# Altium footprint library Con 050 DSubminiature.PcbLib: 112 footprints (part 2 of 7)
Each footprint in its own frame and in the unit in brackets; x right, y up, seen from the top. Pads: shape width x height; smd on the part's side, far side on the other; paste and mask are expansions set on the pad; w line width, h text height; cw(c..) or ccw(c..) is an arc to the next point about the centre after c.
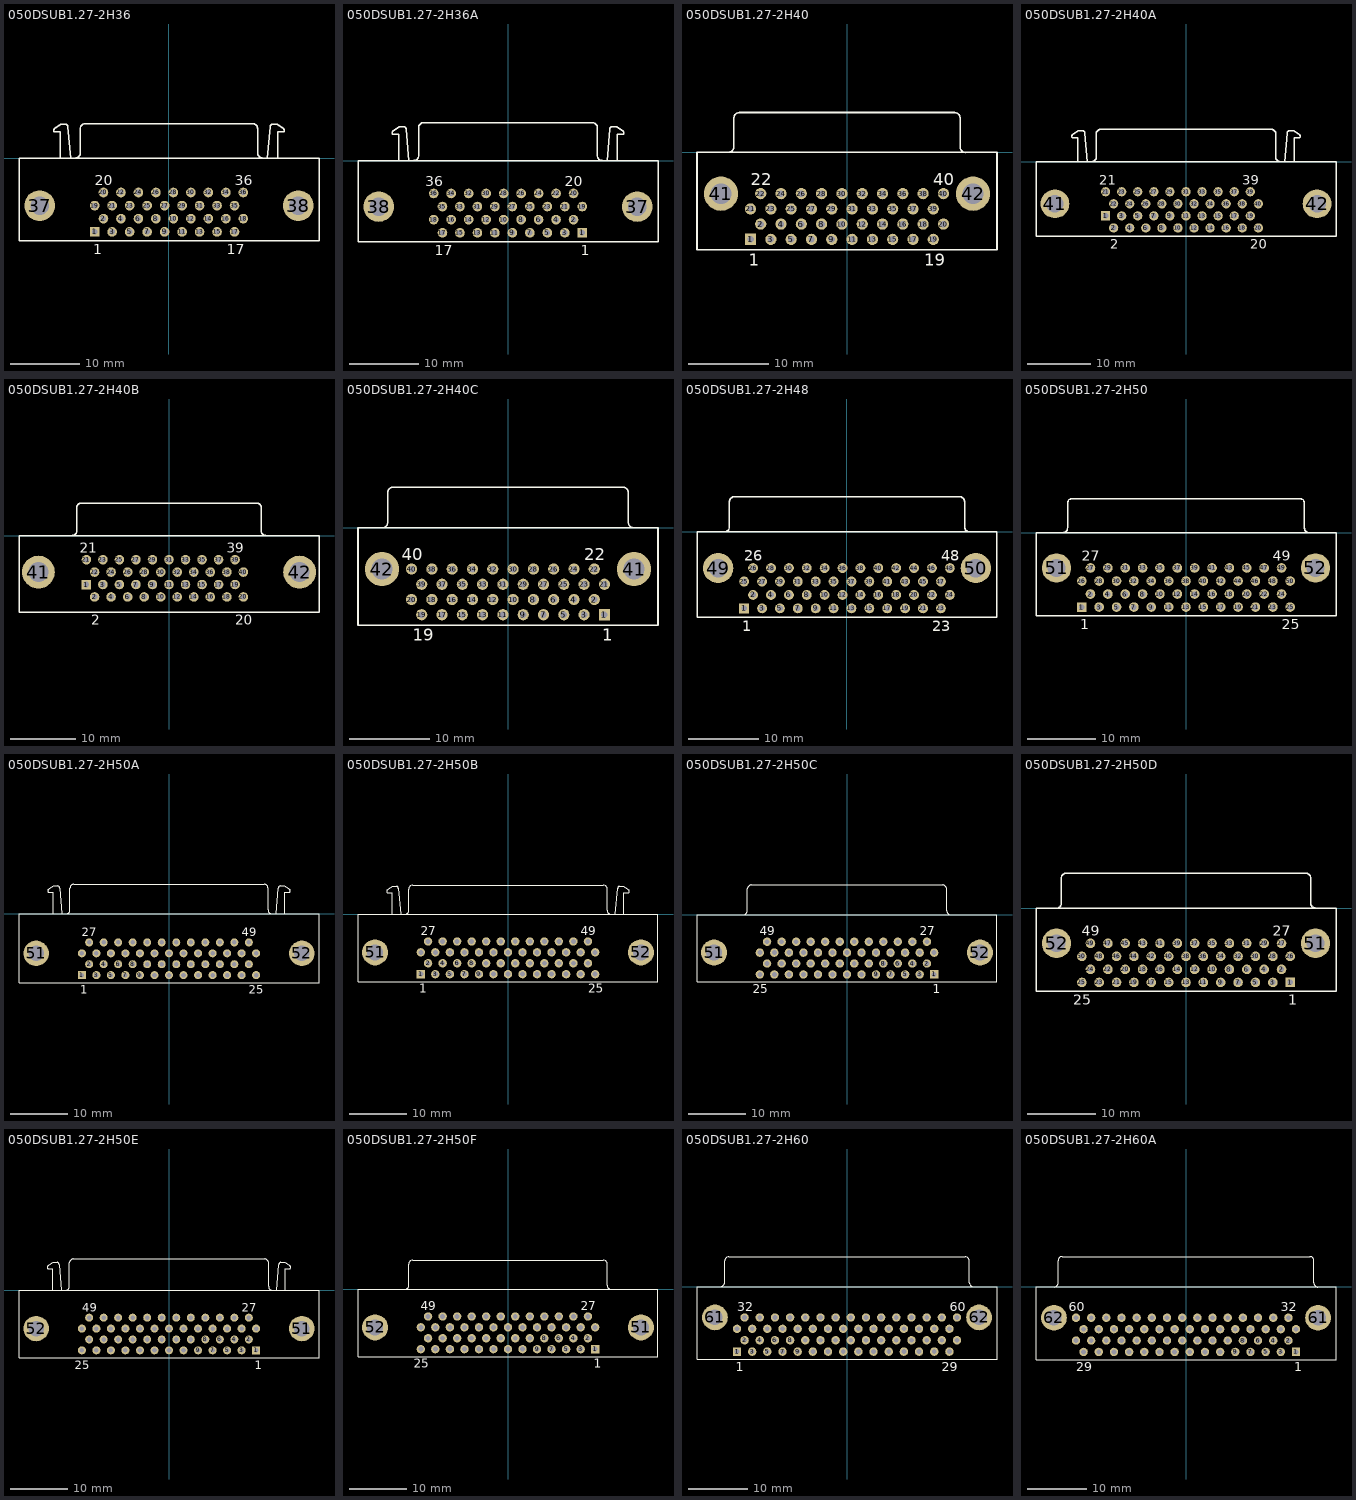
[diagram p1: the footprints below, top view; thin cyan lines are the x and y axes]

## 050DSUB1.27-2H36 [mm] "Connector; D Subminiature 050 Series; 36 Position; Right Angle"
height 10.55
pads (38):
  rect 1.4x1.4 hole 0.8: 1(-10.795,-10.715)
  round 1.4 hole 0.8: 2(-9.525,-8.81) 3(-8.255,-10.715) 4(-6.985,-8.81) 5(-5.715,-10.715) 6(-4.445,-8.81) 7(-3.175,-10.715) 8(-1.905,-8.81) 9(-0.635,-10.715) 10(0.635,-8.81) 11(1.905,-10.715) 12(3.175,-8.81) 13(4.445,-10.715) 14(5.715,-8.81) 15(6.985,-10.715) 16(8.255,-8.81) 17(9.525,-10.715) 18(10.795,-8.81) 19(-10.795,-6.905) 20(-9.525,-5) 21(-8.255,-6.905) 22(-6.985,-5) 23(-5.715,-6.905) 24(-4.445,-5) 25(-3.175,-6.905) 26(-1.905,-5) 27(-0.635,-6.905) 28(0.635,-5) 29(1.905,-6.905) 30(3.175,-5) 31(4.445,-6.905) 32(5.715,-5) 33(6.985,-6.905) 34(8.255,-5) 35(9.525,-6.905) 36(10.795,-5)
  round 4.45 hole 2.7: 37(-18.8,-6.905) 38(18.8,-6.905)
Top Overlay:
  lines w0.2: -16.655,4.28 -15.715,4.908 -14.993,4.908 cw(c-15.095,4.51) -14.685,4.51 ; -16.641,4.265 ccw(c-16.415,4.02) -16.665,3.8 -15.785,3.8 -15.785,0.01 ; -14.685,4.53 -14.315,0.01 ; -13.585,0.025 ccw(c-13.585,0.72) -12.89,0.72 ; -12.88,0.72 -12.88,4.31 cw(c-12.185,4.31) -12.185,5.005 ; -12.185,5 12.185,5 ; 12.175,5.005 cw(c12.175,4.31) 12.87,4.31 ; 12.88,4.31 12.88,0.72 ccw(c13.575,0.72) 13.575,0.025 ; 14.315,0.01 14.685,4.53 ; 14.685,4.51 cw(c15.095,4.51) 14.993,4.908 15.715,4.908 16.655,4.28 ; 15.785,0.01 15.785,3.8 16.665,3.8 ccw(c16.415,4.02) 16.641,4.265 ; -21.8,-12.015 21.8,-12.015 21.8,0 -21.8,0 -21.8,-12.015
  text "1" at -11.045,-13.99 h1.5
  text "17" at 8.4,-13.99 h1.5
  text "20" at -10.775,-3.925 h1.5
  text "36" at 9.545,-3.925 h1.5

## 050DSUB1.27-2H36A [mm] "Connector; D Subminiature 050 Series; 36 Position; Right Angle"
height 10.55
pads (38):
  rect 1.4x1.4 hole 0.8: 1(10.795,-10.5)
  round 1.4 hole 0.8: 2(9.525,-8.595) 3(8.255,-10.5) 4(6.985,-8.595) 5(5.715,-10.5) 6(4.445,-8.595) 7(3.175,-10.5) 8(1.905,-8.595) 9(0.635,-10.5) 10(-0.635,-8.595) 11(-1.905,-10.5) 12(-3.175,-8.595) 13(-4.445,-10.5) 14(-5.715,-8.595) 15(-6.985,-10.5) 16(-8.255,-8.595) 17(-9.525,-10.5) 18(-10.795,-8.595) 19(10.795,-6.69) 20(9.525,-4.785) 21(8.255,-6.69) 22(6.985,-4.785) 23(5.715,-6.69) 24(4.445,-4.785) 25(3.175,-6.69) 26(1.905,-4.785) 27(0.635,-6.69) 28(-0.635,-4.785) 29(-1.905,-6.69) 30(-3.175,-4.785) 31(-4.445,-6.69) 32(-5.715,-4.785) 33(-6.985,-6.69) 34(-8.255,-4.785) 35(-9.525,-6.69) 36(-10.795,-4.785)
  round 4.45 hole 2.7: 37(18.795,-6.69) 38(-18.795,-6.69)
Top Overlay:
  lines w0.2: -16.755,4.27 -15.815,4.898 -15.093,4.898 cw(c-15.195,4.5) -14.785,4.5 ; -16.741,4.255 ccw(c-16.515,4.01) -16.765,3.79 -15.885,3.79 -15.885,0 ; -14.785,4.52 -14.415,0 ; -13.675,0.015 ccw(c-13.675,0.71) -12.98,0.71 -12.98,4.805 cw(c-12.285,4.805) -12.285,5.5 ; -12.275,5.5 12.275,5.5 cw(c12.275,4.805) 12.97,4.805 ; 12.98,4.805 12.98,0.71 ccw(c13.675,0.71) 13.675,0.015 ; 14.405,0 14.775,4.52 ; 14.775,4.5 cw(c15.185,4.5) 15.083,4.898 15.805,4.898 16.745,4.27 ; 15.875,0 15.875,3.79 16.755,3.79 ccw(c16.505,4.01) 16.731,4.255 ; -21.8,-11.8 -21.8,0 21.8,0 21.8,-11.8 -21.8,-11.8
  text "36" at -12.045,-3.71 h1.5
  text "20" at 8.275,-3.71 h1.5
  text "17" at -10.65,-13.775 h1.5
  text "1" at 10.545,-13.775 h1.5

## 050DSUB1.27-2H40 [mm] "Connector; D Subminiature 050 Series; 40 Position; Right Angle"
height 8.1
pads (42):
  rect 1.4x1.4 hole 0.8: 1(-12.065,-10.87)
  round 1.4 hole 0.8: 2(-10.795,-8.965) 3(-9.525,-10.87) 4(-8.255,-8.965) 5(-6.985,-10.87) 6(-5.715,-8.965) 7(-4.445,-10.87) 8(-3.175,-8.965) 9(-1.905,-10.87) 10(-0.635,-8.965) 11(0.635,-10.87) 12(1.905,-8.965) 13(3.175,-10.87) 14(4.445,-8.965) 15(5.715,-10.87) 16(6.985,-8.965) 17(8.255,-10.87) 18(9.525,-8.965) 19(10.795,-10.87) 20(12.065,-8.965) 21(-12.065,-7.06) 22(-10.795,-5.155) 23(-9.525,-7.06) 24(-8.255,-5.155) 25(-6.985,-7.06) 26(-5.715,-5.155) 27(-4.445,-7.06) 28(-3.175,-5.155) 29(-1.905,-7.06) 30(-0.635,-5.155) 31(0.635,-7.06) 32(1.905,-5.155) 33(3.175,-7.06) 34(4.445,-5.155) 35(5.715,-7.06) 36(6.985,-5.155) 37(8.255,-7.06) 38(9.525,-5.155) 39(10.795,-7.06) 40(12.065,-5.155)
  round 4.3 hole 2.6: 41(-15.765,-5.155) 42(15.765,-5.155)
Top Overlay:
  lines w0.2: -14.845,0.02 ccw(c-14.845,0.715) -14.15,0.715 -14.15,4.305 cw(c-13.455,4.305) -13.455,5 ; -13.5,5 13.5,5 ; 13.455,5 cw(c13.455,4.305) 14.15,4.305 14.15,0.687 ccw(c14.845,0.687) 14.845,-0.008 ; -18.765,-12.17 -18.765,0 18.765,0 18.765,-12.17 -18.765,-12.17
  text "19" at 9.67,-14.145 h1.5
  text "1" at -12.315,-14.145 h1.5
  text "22" at -12.045,-4.08 h1.5
  text "40" at 10.815,-4.08 h1.5

## 050DSUB1.27-2H40A [mm] "Connector; D Subminiature 050 Series; 40 Position; Right Angle"
height 10.44
pads (42):
  rect 1.46x1.46 hole 0.86: 1(-12.7,-8.555)
  round 1.46 hole 0.86: 2(-11.43,-10.46) 3(-10.16,-8.555) 4(-8.89,-10.46) 5(-7.62,-8.555) 6(-6.35,-10.46) 7(-5.08,-8.555) 8(-3.81,-10.46) 9(-2.54,-8.555) 10(-1.27,-10.46) 11(0,-8.555) 12(1.27,-10.46) 13(2.54,-8.555) 14(3.81,-10.46) 15(5.08,-8.555) 16(6.35,-10.46) 17(7.62,-8.555) 18(8.89,-10.46) 19(10.16,-8.555) 20(11.43,-10.46) 21(-12.7,-4.745) 22(-11.43,-6.65) 23(-10.16,-4.745) 24(-8.89,-6.65) 25(-7.62,-4.745) 26(-6.35,-6.65) 27(-5.08,-4.745) 28(-3.81,-6.65) 29(-2.54,-4.745) 30(-1.27,-6.65) 31(0,-4.745) 32(1.27,-6.65) 33(2.54,-4.745) 34(3.81,-6.65) 35(5.08,-4.745) 36(6.35,-6.65) 37(7.62,-4.745) 38(8.89,-6.65) 39(10.16,-4.745) 40(11.43,-6.65)
  round 4.55 hole 2.77: 41(-20.7,-6.65) 42(20.7,-6.65)
Top Overlay:
  lines w0.2: -23.695,0 23.695,0 23.695,-11.76 -23.695,-11.76 -23.695,0.02 ; -17.95,4.27 -17.01,4.898 -16.288,4.898 cw(c-16.39,4.5) -15.98,4.5 ; -17.936,4.255 ccw(c-17.71,4.01) -17.96,3.79 -17.08,3.79 -17.08,0 ; -15.98,4.52 -15.61,0 ; -14.87,0.005 ccw(c-14.87,0.7) -14.175,0.7 -14.175,4.41 cw(c-13.48,4.41) -13.48,5.105 ; -13.48,5.11 13.48,5.11 ; 13.48,5.105 cw(c13.48,4.41) 14.175,4.41 14.175,0.7 ccw(c14.87,0.7) 14.87,0.005 ; 15.61,0 15.98,4.52 ; 15.98,4.5 cw(c16.39,4.5) 16.288,4.898 17.01,4.898 17.95,4.27 ; 17.08,0 17.08,3.79 17.96,3.79 ccw(c17.71,4.01) 17.936,4.255
  text "20" at 10.18,-13.735 h1.5
  text "39" at 8.91,-3.64 h1.5
  text "2" at -11.93,-13.735 h1.5
  text "21" at -13.7,-3.64 h1.5

## 050DSUB1.27-2H40B [mm] "Connector; D Subminiature 050 Series; 40 Position; Right Angle"
height 10.44
pads (42):
  rect 1.46x1.46 hole 0.86: 1(-12.7,-7.52)
  round 1.46 hole 0.86: 2(-11.43,-9.425) 3(-10.16,-7.52) 4(-8.89,-9.425) 5(-7.62,-7.52) 6(-6.35,-9.425) 7(-5.08,-7.52) 8(-3.81,-9.425) 9(-2.54,-7.52) 10(-1.27,-9.425) 11(0,-7.52) 12(1.27,-9.425) 13(2.54,-7.52) 14(3.81,-9.425) 15(5.08,-7.52) 16(6.35,-9.425) 17(7.62,-7.52) 18(8.89,-9.425) 19(10.16,-7.52) 20(11.43,-9.425) 21(-12.7,-3.71) 22(-11.43,-5.615) 23(-10.16,-3.71) 24(-8.89,-5.615) 25(-7.62,-3.71) 26(-6.35,-5.615) 27(-5.08,-3.71) 28(-3.81,-5.615) 29(-2.54,-3.71) 30(-1.27,-5.615) 31(0,-3.71) 32(1.27,-5.615) 33(2.54,-3.71) 34(3.81,-5.615) 35(5.08,-3.71) 36(6.35,-5.615) 37(7.62,-3.71) 38(8.89,-5.615) 39(10.16,-3.71) 40(11.43,-5.615)
  round 5.05 hole 3.05: 41(-20.065,-5.615) 42(20.065,-5.615)
Top Overlay:
  lines w0.2: -14.87,0.005 ccw(c-14.87,0.7) -14.175,0.7 -14.175,4.3 cw(c-13.48,4.3) -13.48,4.995 ; -13.48,5 13.48,5 ; 13.48,4.995 cw(c13.48,4.3) 14.175,4.3 14.175,0.7 ccw(c14.87,0.7) 14.87,0.005 ; -23.05,-11.76 -23.05,0 23.05,0 23.05,-11.76 -23.05,-11.76
  text "2" at -11.93,-13.735 h1.5
  text "20" at 10.18,-13.735 h1.5
  text "21" at -13.7,-2.605 h1.5
  text "39" at 8.91,-2.605 h1.5

## 050DSUB1.27-2H40C [mm] "Connector; D Subminiature 050 Series; 40 Position; Right Angle"
height 8.1
pads (42):
  rect 1.4x1.4 hole 0.8: 1(12.065,-10.87)
  round 1.4 hole 0.8: 2(10.795,-8.965) 3(9.525,-10.87) 4(8.255,-8.965) 5(6.985,-10.87) 6(5.715,-8.965) 7(4.445,-10.87) 8(3.175,-8.965) 9(1.905,-10.87) 10(0.635,-8.965) 11(-0.635,-10.87) 12(-1.905,-8.965) 13(-3.175,-10.87) 14(-4.445,-8.965) 15(-5.715,-10.87) 16(-6.985,-8.965) 17(-8.255,-10.87) 18(-9.525,-8.965) 19(-10.795,-10.87) 20(-12.065,-8.965) 21(12.065,-7.06) 22(10.795,-5.155) 23(9.525,-7.06) 24(8.255,-5.155) 25(6.985,-7.06) 26(5.715,-5.155) 27(4.445,-7.06) 28(3.175,-5.155) 29(1.905,-7.06) 30(0.635,-5.155) 31(-0.635,-7.06) 32(-1.905,-5.155) 33(-3.175,-7.06) 34(-4.445,-5.155) 35(-5.715,-7.06) 36(-6.985,-5.155) 37(-8.255,-7.06) 38(-9.525,-5.155) 39(-10.795,-7.06) 40(-12.065,-5.155)
  round 4.3 hole 2.6: 41(15.765,-5.155) 42(-15.765,-5.155)
Top Overlay:
  lines w0.2: -15.745,-0.008 ccw(c-15.745,0.687) -15.05,0.687 -15.05,4.405 cw(c-14.355,4.405) -14.355,5.1 ; -14.3,5.1 14.3,5.1 ; 14.355,5.1 cw(c14.355,4.405) 15.05,4.405 15.05,0.715 ccw(c15.745,0.715) 15.745,0.02 ; -18.765,-12.17 -18.765,0 18.765,0 18.765,-12.17 -18.765,-12.17
  text "19" at -11.92,-14.145 h1.5
  text "1" at 11.815,-14.145 h1.5
  text "22" at 9.545,-4.08 h1.5
  text "40" at -13.315,-4.08 h1.5

## 050DSUB1.27-2H48 [mm] "Connector; D Subminiature 050 Series; 48 Position; Right Angle"
height 8.1
pads (50):
  rect 1.4x1.4 hole 0.8: 1(-14.605,-10.87)
  round 1.4 hole 0.8: 2(-13.335,-8.965) 3(-12.065,-10.87) 4(-10.795,-8.965) 5(-9.525,-10.87) 6(-8.255,-8.965) 7(-6.985,-10.87) 8(-5.715,-8.965) 9(-4.445,-10.87) 10(-3.175,-8.965) 11(-1.905,-10.87) 12(-0.635,-8.965) 13(0.635,-10.87) 14(1.905,-8.965) 15(3.175,-10.87) 16(4.445,-8.965) 17(5.715,-10.87) 18(6.985,-8.965) 19(8.255,-10.87) 20(9.525,-8.965) 21(10.795,-10.87) 22(12.065,-8.965) 23(13.335,-10.87) 24(14.605,-8.965) 25(-14.605,-7.06) 26(-13.335,-5.155) 27(-12.065,-7.06) 28(-10.795,-5.155) 29(-9.525,-7.06) 30(-8.255,-5.155) 31(-6.985,-7.06) 32(-5.715,-5.155) 33(-4.445,-7.06) 34(-3.175,-5.155) 35(-1.905,-7.06) 36(-0.635,-5.155) 37(0.635,-7.06) 38(1.905,-5.155) 39(3.175,-7.06) 40(4.445,-5.155) 41(5.715,-7.06) 42(6.985,-5.155) 43(8.255,-7.06) 44(9.525,-5.155) 45(10.795,-7.06) 46(12.065,-5.155) 47(13.335,-7.06) 48(14.605,-5.155)
  round 4.3 hole 2.6: 49(-18.305,-5.155) 50(18.305,-5.155)
Top Overlay:
  lines w0.2: -17.385,0.002 ccw(c-17.385,0.697) -16.69,0.697 -16.69,4.305 cw(c-15.995,4.305) -15.995,5 ; -16,5 16,5 ; 15.995,5 cw(c15.995,4.305) 16.69,4.305 16.69,0.717 ccw(c17.385,0.717) 17.385,0.022 ; -21.305,-12.17 21.305,-12.17 21.305,0 -21.305,0 -21.305,-12.17
  text "26" at -14.585,-4.08 h1.5
  text "48" at 13.355,-4.08 h1.5
  text "1" at -14.855,-14.145 h1.5
  text "23" at 12.085,-14.145 h1.5

## 050DSUB1.27-2H50 [mm] "Connector; D Subminiature 050 Series; 50 Position; Right Angle"
height 8.1
pads (52):
  rect 1.4x1.4 hole 0.8: 1(-15.24,-10.87)
  round 1.4 hole 0.8: 2(-13.97,-8.965) 3(-12.7,-10.87) 4(-11.43,-8.965) 5(-10.16,-10.87) 6(-8.89,-8.965) 7(-7.62,-10.87) 8(-6.35,-8.965) 9(-5.08,-10.87) 10(-3.81,-8.965) 11(-2.54,-10.87) 12(-1.27,-8.965) 13(0,-10.87) 14(1.27,-8.965) 15(2.54,-10.87) 16(3.81,-8.965) 17(5.08,-10.87) 18(6.35,-8.965) 19(7.62,-10.87) 20(8.89,-8.965) 21(10.16,-10.87) 22(11.43,-8.965) 23(12.7,-10.87) 24(13.97,-8.965) 25(15.24,-10.87) 26(-15.24,-7.06) 27(-13.97,-5.155) 28(-12.7,-7.06) 29(-11.43,-5.155) 30(-10.16,-7.06) 31(-8.89,-5.155) 32(-7.62,-7.06) 33(-6.35,-5.155) 34(-5.08,-7.06) 35(-3.81,-5.155) 36(-2.54,-7.06) 37(-1.27,-5.155) 38(0,-7.06) 39(1.27,-5.155) 40(2.54,-7.06) 41(3.81,-5.155) 42(5.08,-7.06) 43(6.35,-5.155) 44(7.62,-7.06) 45(8.89,-5.155) 46(10.16,-7.06) 47(11.43,-5.155) 48(12.7,-7.06) 49(13.97,-5.155) 50(15.24,-7.06)
  round 4.3 hole 2.6: 51(-18.94,-5.155) 52(18.94,-5.155)
Top Overlay:
  lines w0.2: -18.02,0.02 ccw(c-18.02,0.715) -17.325,0.715 -17.325,4.305 cw(c-16.63,4.305) -16.63,5 16.68,5 ; 16.63,5 cw(c16.63,4.305) 17.325,4.305 17.325,0.687 ccw(c18.02,0.687) 18.02,-0.008 ; -21.94,-12.17 21.94,-12.17 21.94,0 -21.94,0 -21.94,-12.17
  text "25" at 13.99,-14.145 h1.5
  text "1" at -15.49,-14.145 h1.5
  text "49" at 12.72,-4.08 h1.5
  text "27" at -15.22,-4.08 h1.5

## 050DSUB1.27-2H50A [mm] "Connector; D Subminiature 050 Series; 50 Position; Right Angle"
height 10.55
pads (52):
  rect 1.4x1.4 hole 0.8: 1(-15.24,-10.71)
  round 1.4 hole 0.8: 2(-13.97,-8.805) 3(-12.7,-10.71) 4(-11.43,-8.805) 5(-10.16,-10.71) 6(-8.89,-8.805) 7(-7.62,-10.71) 8(-6.35,-8.805) 9(-5.08,-10.71) 10(-3.81,-8.805) 11(-2.54,-10.71) 12(-1.27,-8.805) 13(0,-10.71) 14(1.27,-8.805) 15(2.54,-10.71) 16(3.81,-8.805) 17(5.08,-10.71) 18(6.35,-8.805) 19(7.62,-10.71) 20(8.89,-8.805) 21(10.16,-10.71) 22(11.43,-8.805) 23(12.7,-10.71) 24(13.97,-8.805) 25(15.24,-10.71) 26(-15.24,-6.9) 27(-13.97,-4.995) 28(-12.7,-6.9) 29(-11.43,-4.995) 30(-10.16,-6.9) 31(-8.89,-4.995) 32(-7.62,-6.9) 33(-6.35,-4.995) 34(-5.08,-6.9) 35(-3.81,-4.995) 36(-2.54,-6.9) 37(-1.27,-4.995) 38(0,-6.9) 39(1.27,-4.995) 40(2.54,-6.9) 41(3.81,-4.995) 42(5.08,-6.9) 43(6.35,-4.995) 44(7.62,-6.9) 45(8.89,-4.995) 46(10.16,-6.9) 47(11.43,-4.995) 48(12.7,-6.9) 49(13.97,-4.995) 50(15.24,-6.9)
  round 4.45 hole 2.7: 51(-23.24,-6.9) 52(23.24,-6.9)
Top Overlay:
  lines w0.2: -21.1,4.27 -20.16,4.898 -19.438,4.898 cw(c-19.54,4.5) -19.13,4.5 ; -21.086,4.255 ccw(c-20.86,4.01) -21.11,3.79 -20.23,3.79 -20.23,0 ; -19.13,4.52 -18.76,0 ; -18.02,0.005 ccw(c-18.02,0.7) -17.325,0.7 -17.325,4.5 ; -17.32,4.505 cw(c-16.625,4.505) -16.625,5.2 16.625,5.2 cw(c16.625,4.505) 17.32,4.505 ; 17.325,4.5 17.325,0.7 ccw(c18.02,0.7) 18.02,0.005 ; 18.76,0 19.13,4.52 ; 19.13,4.5 cw(c19.54,4.5) 19.438,4.898 20.16,4.898 21.1,4.27 ; 20.23,0 20.23,3.79 21.11,3.79 ccw(c20.86,4.01) 21.086,4.255 ; -26.24,-12.01 -26.24,0 26.24,0 26.24,-12.01 -26.24,-12.01
  text "1" at -15.49,-13.985 h1.5
  text "25" at 13.99,-13.985 h1.5
  text "27" at -15.22,-3.92 h1.5
  text "49" at 12.72,-3.92 h1.5

## 050DSUB1.27-2H50B [mm] "Connector; D Subminiature 050 Series; 50 Position; Right Angle"
height 10.44
pads (52):
  rect 1.46x1.46 hole 0.86: 1(-15.24,-10.46)
  round 1.46 hole 0.86: 2(-13.97,-8.555) 3(-12.7,-10.46) 4(-11.43,-8.555) 5(-10.16,-10.46) 6(-8.89,-8.555) 7(-7.62,-10.46) 8(-6.35,-8.555) 9(-5.08,-10.46) 10(-3.81,-8.555) 11(-2.54,-10.46) 12(-1.27,-8.555) 13(0,-10.46) 14(1.27,-8.555) 15(2.54,-10.46) 16(3.81,-8.555) 17(5.08,-10.46) 18(6.35,-8.555) 19(7.62,-10.46) 20(8.89,-8.555) 21(10.16,-10.46) 22(11.43,-8.555) 23(12.7,-10.46) 24(13.97,-8.555) 25(15.24,-10.46) 26(-15.24,-6.65) 27(-13.97,-4.745) 28(-12.7,-6.65) 29(-11.43,-4.745) 30(-10.16,-6.65) 31(-8.89,-4.745) 32(-7.62,-6.65) 33(-6.35,-4.745) 34(-5.08,-6.65) 35(-3.81,-4.745) 36(-2.54,-6.65) 37(-1.27,-4.745) 38(0,-6.65) 39(1.27,-4.745) 40(2.54,-6.65) 41(3.81,-4.745) 42(5.08,-6.65) 43(6.35,-4.745) 44(7.62,-6.65) 45(8.89,-4.745) 46(10.16,-6.65) 47(11.43,-4.745) 48(12.7,-6.65) 49(13.97,-4.745) 50(15.24,-6.65)
  round 4.55 hole 2.77: 51(-23.24,-6.65) 52(23.24,-6.65)
Top Overlay:
  lines w0.2: -21.125,4.27 -20.185,4.898 -19.463,4.898 cw(c-19.565,4.5) -19.155,4.5 ; -21.111,4.255 ccw(c-20.885,4.01) -21.135,3.79 -20.255,3.79 -20.255,0 ; -19.155,4.52 -18.785,0 ; -18.045,0.015 ccw(c-18.045,0.71) -17.35,0.71 -17.35,4.41 ; -17.345,4.415 cw(c-16.65,4.415) -16.65,5.11 16.65,5.11 cw(c16.65,4.415) 17.345,4.415 ; 17.35,4.41 17.35,0.71 ccw(c18.045,0.71) 18.045,0.015 ; 18.785,0 19.155,4.52 ; 19.155,4.5 cw(c19.565,4.5) 19.463,4.898 20.185,4.898 21.125,4.27 ; 20.255,0 20.255,3.79 21.135,3.79 ccw(c20.885,4.01) 21.111,4.255 ; -26.225,-11.76 -26.225,0 26.225,0 26.225,-11.76 -26.225,-11.76
  text "1" at -15.49,-13.735 h1.5
  text "25" at 13.99,-13.735 h1.5
  text "27" at -15.22,-3.64 h1.5
  text "49" at 12.72,-3.64 h1.5

## 050DSUB1.27-2H50C [mm] "Connector; D Subminiature 050 Series; 50 Position; Right Angle"
height 10.44
pads (52):
  rect 1.46x1.46 hole 0.86: 1(15.24,-10.46)
  round 1.46 hole 0.86: 2(13.97,-8.555) 3(12.7,-10.46) 4(11.43,-8.555) 5(10.16,-10.46) 6(8.89,-8.555) 7(7.62,-10.46) 8(6.35,-8.555) 9(5.08,-10.46) 10(3.81,-8.555) 11(2.54,-10.46) 12(1.27,-8.555) 13(0,-10.46) 14(-1.27,-8.555) 15(-2.54,-10.46) 16(-3.81,-8.555) 17(-5.08,-10.46) 18(-6.35,-8.555) 19(-7.62,-10.46) 20(-8.89,-8.555) 21(-10.16,-10.46) 22(-11.43,-8.555) 23(-12.7,-10.46) 24(-13.97,-8.555) 25(-15.24,-10.46) 26(15.24,-6.65) 27(13.97,-4.745) 28(12.7,-6.65) 29(11.43,-4.745) 30(10.16,-6.65) 31(8.89,-4.745) 32(7.62,-6.65) 33(6.35,-4.745) 34(5.08,-6.65) 35(3.81,-4.745) 36(2.54,-6.65) 37(1.27,-4.745) 38(0,-6.65) 39(-1.27,-4.745) 40(-2.54,-6.65) 41(-3.81,-4.745) 42(-5.08,-6.65) 43(-6.35,-4.745) 44(-7.62,-6.65) 45(-8.89,-4.745) 46(-10.16,-6.65) 47(-11.43,-4.745) 48(-12.7,-6.65) 49(-13.97,-4.745) 50(-15.24,-6.65)
  round 4.55 hole 2.77: 51(-23.24,-6.65) 52(23.24,-6.65)
Top Overlay:
  lines w0.2: -18.12,0 ccw(c-18.12,0.695) -17.425,0.695 -17.425,4.495 ; -17.42,4.5 cw(c-16.725,4.5) -16.725,5.195 16.725,5.195 cw(c16.725,4.5) 17.42,4.5 ; 17.425,4.495 17.425,0.695 ccw(c18.12,0.695) 18.12,0 ; -26.225,-11.76 26.225,-11.76 26.225,0 -26.225,0 -26.225,-11.76
  text "27" at 12.72,-3.64 h1.5
  text "49" at -15.22,-3.64 h1.5
  text "25" at -16.49,-13.735 h1.5
  text "1" at 14.99,-13.735 h1.5

## 050DSUB1.27-2H50D [mm] "Connector; D Subminiature 050 Series; 50 Position; Right Angle"
height 8.1
pads (52):
  rect 1.4x1.4 hole 0.8: 1(15.24,-10.87)
  round 1.4 hole 0.8: 2(13.97,-8.965) 3(12.7,-10.87) 4(11.43,-8.965) 5(10.16,-10.87) 6(8.89,-8.965) 7(7.62,-10.87) 8(6.35,-8.965) 9(5.08,-10.87) 10(3.81,-8.965) 11(2.54,-10.87) 12(1.27,-8.965) 13(0,-10.87) 14(-1.27,-8.965) 15(-2.54,-10.87) 16(-3.81,-8.965) 17(-5.08,-10.87) 18(-6.35,-8.965) 19(-7.62,-10.87) 20(-8.89,-8.965) 21(-10.16,-10.87) 22(-11.43,-8.965) 23(-12.7,-10.87) 24(-13.97,-8.965) 25(-15.24,-10.87) 26(15.24,-7.06) 27(13.97,-5.155) 28(12.7,-7.06) 29(11.43,-5.155) 30(10.16,-7.06) 31(8.89,-5.155) 32(7.62,-7.06) 33(6.35,-5.155) 34(5.08,-7.06) 35(3.81,-5.155) 36(2.54,-7.06) 37(1.27,-5.155) 38(0,-7.06) 39(-1.27,-5.155) 40(-2.54,-7.06) 41(-3.81,-5.155) 42(-5.08,-7.06) 43(-6.35,-5.155) 44(-7.62,-7.06) 45(-8.89,-5.155) 46(-10.16,-7.06) 47(-11.43,-5.155) 48(-12.7,-7.06) 49(-13.97,-5.155) 50(-15.24,-7.06)
  round 4.3 hole 2.6: 51(18.94,-5.155) 52(-18.94,-5.155)
Top Overlay:
  lines w0.2: -18.92,-0.008 ccw(c-18.92,0.687) -18.225,0.687 -18.225,4.42 ; -18.22,4.405 cw(c-17.525,4.405) -17.525,5.1 17.525,5.1 cw(c17.525,4.405) 18.22,4.405 ; 18.225,0.687 18.225,4.42 ; 18.225,0.715 ccw(c18.92,0.715) 18.92,0.02 ; -21.94,-12.17 -21.94,0 21.94,0 21.94,-12.17 -21.94,-12.17
  text "27" at 12.72,-4.08 h1.5
  text "49" at -15.22,-4.08 h1.5
  text "1" at 14.99,-14.145 h1.5
  text "25" at -16.49,-14.145 h1.5

## 050DSUB1.27-2H50E [mm] "Connector; D Subminiature 050 Series; 50 Position; Right Angle"
height 10.55
pads (52):
  rect 1.4x1.4 hole 0.8: 1(15.24,-10.5)
  round 1.4 hole 0.8: 2(13.97,-8.595) 3(12.7,-10.5) 4(11.43,-8.595) 5(10.16,-10.5) 6(8.89,-8.595) 7(7.62,-10.5) 8(6.35,-8.595) 9(5.08,-10.5) 10(3.81,-8.595) 11(2.54,-10.5) 12(1.27,-8.595) 13(0,-10.5) 14(-1.27,-8.595) 15(-2.54,-10.5) 16(-3.81,-8.595) 17(-5.08,-10.5) 18(-6.35,-8.595) 19(-7.62,-10.5) 20(-8.89,-8.595) 21(-10.16,-10.5) 22(-11.43,-8.595) 23(-12.7,-10.5) 24(-13.97,-8.595) 25(-15.24,-10.5) 26(15.24,-6.69) 27(13.97,-4.785) 28(12.7,-6.69) 29(11.43,-4.785) 30(10.16,-6.69) 31(8.89,-4.785) 32(7.62,-6.69) 33(6.35,-4.785) 34(5.08,-6.69) 35(3.81,-4.785) 36(2.54,-6.69) 37(1.27,-4.785) 38(0,-6.69) 39(-1.27,-4.785) 40(-2.54,-6.69) 41(-3.81,-4.785) 42(-5.08,-6.69) 43(-6.35,-4.785) 44(-7.62,-6.69) 45(-8.89,-4.785) 46(-10.16,-6.69) 47(-11.43,-4.785) 48(-12.7,-6.69) 49(-13.97,-4.785) 50(-15.24,-6.69)
  round 4.45 hole 2.7: 51(23.24,-6.69) 52(-23.24,-6.69)
Top Overlay:
  lines w0.2: -21.21,4.27 -20.27,4.898 -19.548,4.898 cw(c-19.65,4.5) -19.24,4.5 ; -21.196,4.255 ccw(c-20.97,4.01) -21.22,3.79 -20.34,3.79 -20.34,0 ; -19.24,4.52 -18.87,0 ; -18.13,0.005 ccw(c-18.13,0.7) -17.435,0.7 -17.435,4.805 ; -17.425,4.805 cw(c-16.73,4.805) -16.73,5.5 16.73,5.5 cw(c16.73,4.805) 17.425,4.805 ; 17.415,4.805 17.415,0.7 ccw(c18.11,0.7) 18.11,0.005 ; 18.85,0 19.22,4.52 ; 19.22,4.5 cw(c19.63,4.5) 19.528,4.898 20.25,4.898 21.19,4.27 ; 20.32,0 20.32,3.79 21.2,3.79 ccw(c20.95,4.01) 21.176,4.255 ; -26.25,-11.8 -26.25,0 26.25,0 26.25,-11.8 -26.25,-11.8
  text "25" at -16.49,-13.775 h1.5
  text "27" at 12.72,-3.71 h1.5
  text "1" at 14.99,-13.775 h1.5
  text "49" at -15.22,-3.71 h1.5

## 050DSUB1.27-2H50F [mm] "Connector; D Subminiature 050 Series; 50 Position; Right Angle"
height 10.44
pads (52):
  rect 1.46x1.46 hole 0.86: 1(15.24,-10.46)
  round 1.46 hole 0.86: 2(13.97,-8.555) 3(12.7,-10.46) 4(11.43,-8.555) 5(10.16,-10.46) 6(8.89,-8.555) 7(7.62,-10.46) 8(6.35,-8.555) 9(5.08,-10.46) 10(3.81,-8.555) 11(2.54,-10.46) 12(1.27,-8.555) 13(0,-10.46) 14(-1.27,-8.555) 15(-2.54,-10.46) 16(-3.81,-8.555) 17(-5.08,-10.46) 18(-6.35,-8.555) 19(-7.62,-10.46) 20(-8.89,-8.555) 21(-10.16,-10.46) 22(-11.43,-8.555) 23(-12.7,-10.46) 24(-13.97,-8.555) 25(-15.24,-10.46) 26(15.24,-6.65) 27(13.97,-4.745) 28(12.7,-6.65) 29(11.43,-4.745) 30(10.16,-6.65) 31(8.89,-4.745) 32(7.62,-6.65) 33(6.35,-4.745) 34(5.08,-6.65) 35(3.81,-4.745) 36(2.54,-6.65) 37(1.27,-4.745) 38(0,-6.65) 39(-1.27,-4.745) 40(-2.54,-6.65) 41(-3.81,-4.745) 42(-5.08,-6.65) 43(-6.35,-4.745) 44(-7.62,-6.65) 45(-8.89,-4.745) 46(-10.16,-6.65) 47(-11.43,-4.745) 48(-12.7,-6.65) 49(-13.97,-4.745) 50(-15.24,-6.65)
  round 4.55 hole 2.77: 51(23.24,-6.65) 52(-23.24,-6.65)
Top Overlay:
  lines w0.2: -18.045,0.015 ccw(c-18.045,0.71) -17.35,0.71 -17.35,4.41 ; -17.345,4.415 cw(c-16.65,4.415) -16.65,5.11 16.65,5.11 cw(c16.65,4.415) 17.345,4.415 ; 17.35,4.41 17.35,0.71 ccw(c18.045,0.71) 18.045,0.015 ; -26.225,-11.76 -26.225,0 26.225,0 26.225,-11.76 -26.225,-11.76
  text "1" at 14.99,-13.735 h1.5
  text "25" at -16.49,-13.735 h1.5
  text "27" at 12.72,-3.64 h1.5
  text "49" at -15.22,-3.64 h1.5

## 050DSUB1.27-2H60 [mm] "Connector; D Subminiature 050 Series; 60 Position; Right Angle"
height 8.1
pads (62):
  rect 1.4x1.4 hole 0.8: 1(-18.415,-10.87)
  round 1.4 hole 0.8: 2(-17.145,-8.965) 3(-15.875,-10.87) 4(-14.605,-8.965) 5(-13.335,-10.87) 6(-12.065,-8.965) 7(-10.795,-10.87) 8(-9.525,-8.965) 9(-8.255,-10.87) 10(-6.985,-8.965) 11(-5.715,-10.87) 12(-4.445,-8.965) 13(-3.175,-10.87) 14(-1.905,-8.965) 15(-0.635,-10.87) 16(0.635,-8.965) 17(1.905,-10.87) 18(3.175,-8.965) 19(4.445,-10.87) 20(5.715,-8.965) 21(6.985,-10.87) 22(8.255,-8.965) 23(9.525,-10.87) 24(10.795,-8.965) 25(12.065,-10.87) 26(13.335,-8.965) 27(14.605,-10.87) 28(15.875,-8.965) 29(17.145,-10.87) 30(18.415,-8.965) 31(-18.415,-7.06) 32(-17.145,-5.155) 33(-15.875,-7.06) 34(-14.605,-5.155) 35(-13.335,-7.06) 36(-12.065,-5.155) 37(-10.795,-7.06) 38(-9.525,-5.155) 39(-8.255,-7.06) 40(-6.985,-5.155) 41(-5.715,-7.06) 42(-4.445,-5.155) 43(-3.175,-7.06) 44(-1.905,-5.155) 45(-0.635,-7.06) 46(0.635,-5.155) 47(1.905,-7.06) 48(3.175,-5.155) 49(4.445,-7.06) 50(5.715,-5.155) 51(6.985,-7.06) 52(8.255,-5.155) 53(9.525,-7.06) 54(10.795,-5.155) 55(12.065,-7.06) 56(13.335,-5.155) 57(14.605,-7.06) 58(15.875,-5.155) 59(17.145,-7.06) 60(18.415,-5.155)
  round 4.3 hole 2.6: 61(-22.115,-5.155) 62(22.115,-5.155)
Top Overlay:
  lines w0.2: -21.195,0.02 ccw(c-21.195,0.715) -20.5,0.715 -20.5,4.305 cw(c-19.805,4.305) -19.805,5 19.805,5 cw(c19.805,4.305) 20.5,4.305 20.5,0.687 ccw(c21.195,0.687) 21.195,-0.008 ; -25.115,-12.17 -25.115,0 25.115,0 25.115,-12.17 -25.115,-12.17
  text "32" at -18.395,-4.08 h1.5
  text "1" at -18.665,-14.145 h1.5
  text "29" at 15.895,-14.145 h1.5
  text "60" at 17.165,-4.08 h1.5

## 050DSUB1.27-2H60A [mm] "Connector; D Subminiature 050 Series; 60 Position; Right Angle"
height 8.1
pads (62):
  rect 1.4x1.4 hole 0.8: 1(18.415,-10.87)
  round 1.4 hole 0.8: 2(17.145,-8.965) 3(15.875,-10.87) 4(14.605,-8.965) 5(13.335,-10.87) 6(12.065,-8.965) 7(10.795,-10.87) 8(9.525,-8.965) 9(8.255,-10.87) 10(6.985,-8.965) 11(5.715,-10.87) 12(4.445,-8.965) 13(3.175,-10.87) 14(1.905,-8.965) 15(0.635,-10.87) 16(-0.635,-8.965) 17(-1.905,-10.87) 18(-3.175,-8.965) 19(-4.445,-10.87) 20(-5.715,-8.965) 21(-6.985,-10.87) 22(-8.255,-8.965) 23(-9.525,-10.87) 24(-10.795,-8.965) 25(-12.065,-10.87) 26(-13.335,-8.965) 27(-14.605,-10.87) 28(-15.875,-8.965) 29(-17.145,-10.87) 30(-18.415,-8.965) 31(18.415,-7.06) 32(17.145,-5.155) 33(15.875,-7.06) 34(14.605,-5.155) 35(13.335,-7.06) 36(12.065,-5.155) 37(10.795,-7.06) 38(9.525,-5.155) 39(8.255,-7.06) 40(6.985,-5.155) 41(5.715,-7.06) 42(4.445,-5.155) 43(3.175,-7.06) 44(1.905,-5.155) 45(0.635,-7.06) 46(-0.635,-5.155) 47(-1.905,-7.06) 48(-3.175,-5.155) 49(-4.445,-7.06) 50(-5.715,-5.155) 51(-6.985,-7.06) 52(-8.255,-5.155) 53(-9.525,-7.06) 54(-10.795,-5.155) 55(-12.065,-7.06) 56(-13.335,-5.155) 57(-14.605,-7.06) 58(-15.875,-5.155) 59(-17.145,-7.06) 60(-18.415,-5.155)
  round 4.3 hole 2.6: 61(22.115,-5.155) 62(-22.115,-5.155)
Top Overlay:
  lines w0.2: -22.095,-0.008 ccw(c-22.095,0.687) -21.4,0.687 -21.4,4.405 cw(c-20.705,4.405) -20.705,5.1 20.8,5.1 ; 20.705,5.1 cw(c20.705,4.405) 21.4,4.405 21.4,0.67 ccw(c22.095,0.67) 22.095,-0.025 ; -25.115,-12.17 -25.115,0 25.115,0 25.115,-12.17 -25.115,-12.17
  text "32" at 15.895,-4.08 h1.5
  text "60" at -19.665,-4.08 h1.5
  text "29" at -18.395,-14.145 h1.5
  text "1" at 18.165,-14.145 h1.5